# EAGLE library part CON_SAMTEC_8 (library paparazzi)
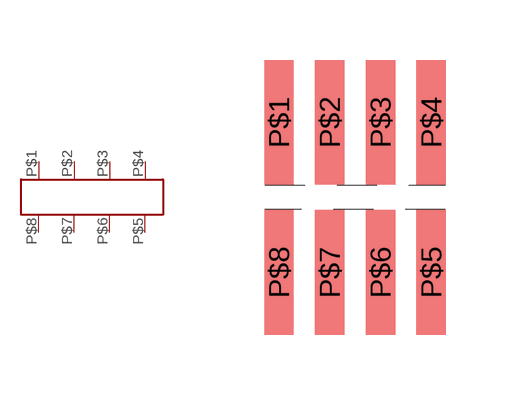
[diagram p17: symbol with the pads of CON_SAMTEC_8; footprint CON_SAMTEC_8]

Designator prefix -

## CON_SAMTEC_8  [CON_SAMTEC_8]
P$1  P$1
P$2  P$2
P$3  P$3
P$4  P$4
P$5  P$5
P$6  P$6
P$7  P$7
P$8  P$8

## Footprint CON_SAMTEC_8 (pad centres in mm)
smd 0.737 x 3.124: P$1 -1.905,1.88; P$2 -0.635,1.88; P$3 0.635,1.88; P$4 1.905,1.88; P$5 1.905,-1.88; P$6 0.635,-1.88; P$7 -0.635,-1.88; P$8 -1.905,-1.88